# Altium footprint library PcbLib1.PcbLib: 32 footprints (part 2 of 2)
Each footprint in its own frame and in the unit in brackets; x right, y up, seen from the top. Pads: shape width x height; smd on the part's side, far side on the other; paste and mask are expansions set on the pad; w line width, h text height; cw(c..) or ccw(c..) is an arc to the next point about the centre after c.
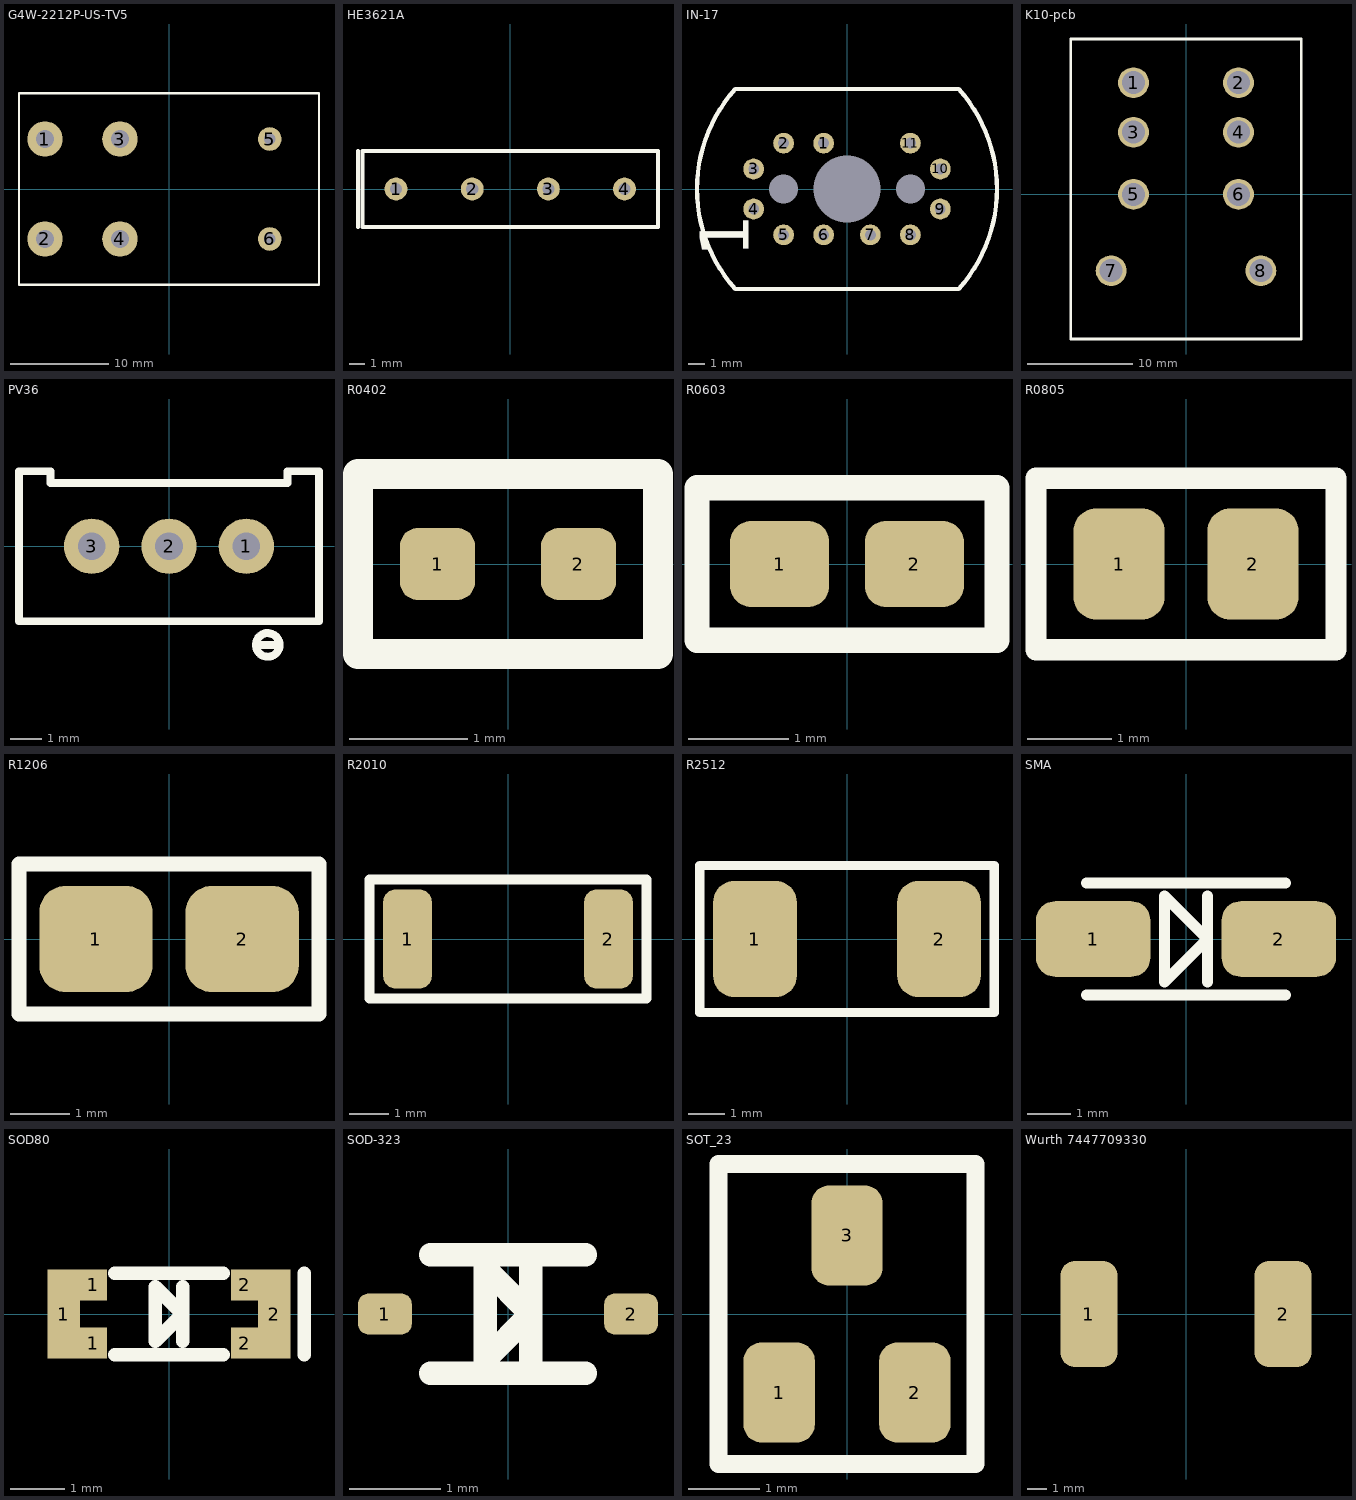
[diagram p1: the footprints below, top view; thin cyan lines are the x and y axes]

## G4W-2212P-US-TV5 [mm] "Relay DPST 15A 12V"
pads (6):
  round 3.6 hole 1.8: 1(-12.61,5.08) 2(-12.61,-5.08) 3(-4.99,5.08) 4(-4.99,-5.08)
  round 2.4 hole 1.2: 5(10.25,5.08) 6(10.25,-5.08)
Top Overlay:
  lines w0.25: -15.25,-9.75 15.25,-9.75 15.25,9.75 -15.25,9.75 -15.25,-9.75
3D body: height 30.6, standoff -4.9, extent -15.25,-9.75 15.25,9.75

## HE3621A [mil] "RELAY REED SPST"
pads (4):
  round 60 hole 32: 1(-300,0) 2(-100,0) 3(100,0) 4(300,0)
Top Overlay:
  lines w10: -400,-100 -400,100 ; -388,-100 388,-100 388,100 -388,100 -388,-100

## IN-17 [mm] "IN-17 Nixie"
pads (14):
  round 1.25 hole 0.65: 1(-1.4,2.75) 2(-3.8,2.75) 3(-5.6,1.2) 4(-5.6,-1.2) 5(-3.8,-2.75) 6(-1.4,-2.75) 7(1.4,-2.75) 8(3.8,-2.75) 9(5.6,-1.2) 10(5.6,1.2) 11(3.8,2.75)
  round 0 hole 1.75 unplated: HOLE(-3.8,0) HOLE(3.8,0)
  round 0 hole 4 unplated: HOLE(0,0)
Top Overlay:
  lines w0.254: -6.705,-6.004 cw(c0,0) -6.705,6.004 ; -6.7,-6 6.7,-6 ; -6.7,6 6.7,6 ; 6.705,-6.004 ccw(c0,0) 6.705,6.004
  text "1" at -4.9,-4.1 h5.08
3D body: height 25, standoff -4, extent -9,-6 9,6

## K10-pcb [mil] "K10 relay, PCB mount"
pads (8):
  round 115 hole 86 unplated: 1(-196,417) 2(196,417) 3(-196,232) 4(196,232) 5(-196,0) 6(196,0) 7(-279.5,-285) 8(279.5,-285)
Top Overlay:
  lines w10: -430,-540 430,-540 430,580 -430,580 -430,-540
3D body: height 1399, standoff -161, extent -418.99,-525.99 419,566.01

## PV36 [mil] "PV36 Trimmer Potentiometer"
height 455
pads (3):
  round 70 hole 35 unplated: 1(98,0) 2(0,0) 3(-98,0)
Top Overlay:
  circle w10: c125,-125 r15
  lines w10: 110,-125 140,-125 ; -190,-95 -190,95 -150,95 -150,80 150,80 150,95 190,95 190,-95 -190,-95
3D body: height 478, standoff -182, extent -192.5,-95 192.5,95

## R0402 [mil]
pads (2):
  rrect50% 25x24 smd: 1(-23.5,0) 2(23.5,0)
Top Overlay:
  lines w10: -50,-30 50,-30 50,30 -50,30 -50,-6 -50,-30

## R0603 [mil]
pads (2):
  rrect50% 39x34 smd: 1(-26.5,0) 2(26.5,0)
Top Overlay:
  lines w10: -59,-30 -59,0 -59,30 59,30 59,-30 -59,-30

## R0805 [mil]
pads (2):
  rrect50% 42.5x52 smd: 1(-31.25,0) 2(31.25,0)
Top Overlay:
  lines w10: -70,-40 70,-40 70,40 -70,40 -70,-21.5 -70,-40
3D body: height 25.98, standoff 0, extent -43.5,-26.49 43.51,26.5

## R1206 [mil]
pads (2):
  rrect50% 75.5x71 smd: 1(-48.75,0) 2(48.75,0)
Top Overlay:
  lines w10: -100,-50 -100,-9 -100,50 100,50 100,-50 -100,-50

## R2010 [mil]
pads (2):
  rrect50% 49x100 smd: 1(-101.5,0) 2(101.5,0)
Top Overlay:
  lines w10: -140,-60 140,-60 140,60 -140,60 -140,-6 -140,-60

## R2512 [mil]
pads (2):
  rrect50% 91x126 smd: 1(-100,0) 2(100,0)
Top Overlay:
  lines w10: -160,-80 160,-80 160,80 -160,80 -160,-7.5 -160,-80

## SMA [mm] "SMA (DO-214AC)"
pads (2):
  rrect50% 2.65x1.75 smd: 1(-2.15,0) 2(2.15,0)
Top Overlay:
  lines w0.254: -2.3,-1.3 2.3,-1.3 ; -2.3,1.3 2.3,1.3 ; 0.5,-1 0.5,1 ; 0.5,0 -0.5,1 -0.5,-1 0.5,0 ; 0.5,0 0.5,0
3D body: height 2.35, standoff 0.01, extent -2.642,-1.397 2.642,1.397

## SOD80 [mm]
pads (6):
  rect 0.6x1.65 smd: 1(-1.95,0) 2(1.95,0)
  rect 0.5x0.575 smd: 1(-1.4,-0.537) 1(-1.4,0.537) 2(1.4,-0.537) 2(1.4,0.537)
Top Overlay:
  lines w0.25: -1,-0.75 1,-0.75 ; -1,0.75 1,0.75 ; 0.25,-0.5 0.25,0.5 ; 2.5,-0.75 2.5,0.75 ; -0.25,-0.5 0.25,0 -0.25,0.5 -0.25,-0.5

## SOD-323 [mm]
pads (2):
  rrect50% 0.59x0.45 smd: 1(-1.35,0) 2(1.35,0)
Top Overlay:
  lines w0.254: -0.85,-0.65 0.85,-0.65 ; -0.85,0.65 0.85,0.65 ; 0.25,-0.5 0.25,0.5 ; -0.25,-0.5 -0.25,0.5 0.25,0 -0.25,-0.5
3D body: height 0.82, standoff 0.01, extent -1.35,-0.7 1.35,0.7

## SOT_23 [mm]
pads (3):
  rrect50% 1x1.4 smd: 1(-0.95,-1.1) 2(0.95,-1.1) 3(0,1.1)
Top Overlay:
  lines w0.25: -1.8,-2.1 -1.8,2.1 1.8,2.1 1.8,-2.1 -1.8,-2.1
3D body: height 1.2, standoff 0.02, extent -1.5,-1.418 1.5,1.418

## Wurth 7447709330 [mm] "FIXED IND 33UH 4.2A 45 MOHM SMD"
pads (2):
  rrect50% 2.9x5.4 smd: 1(-4.95,0) 2(4.95,0)
3D body: height 10.43, standoff 0.05, extent -6,-6 6,6